# Altium footprint library Resistors.PcbLib: 35 footprints (part 3 of 3)
Each footprint in its own frame and in the unit in brackets; x right, y up, seen from the top. Pads: shape width x height; smd on the part's side, far side on the other; paste and mask are expansions set on the pad; w line width, h text height; cw(c..) or ccw(c..) is an arc to the next point about the centre after c.
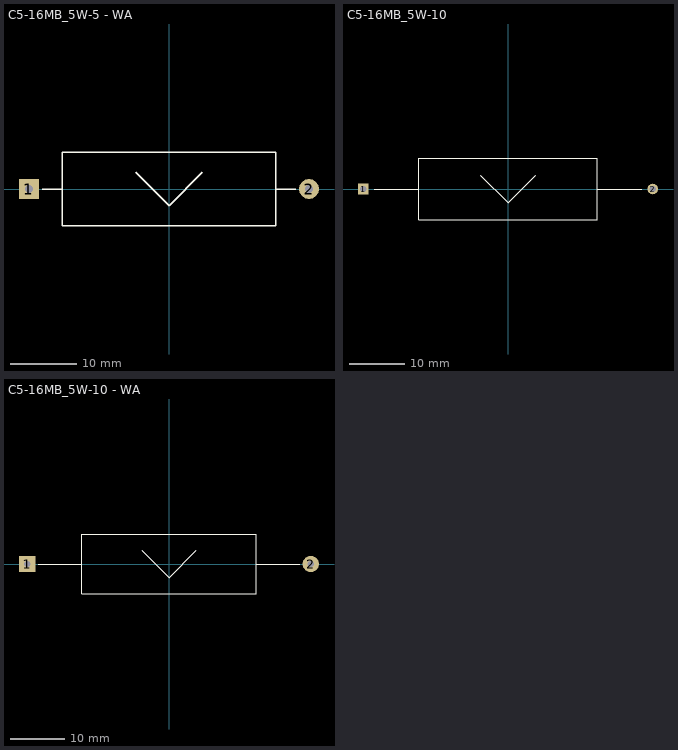
[diagram p2: the footprints below, top view; thin cyan lines are the x and y axes]

## С5-16МВ_5W-5 - WA [mm] "Резистор - 5 Вт  постоянный, проволочный прецизионный. D=11mm,  L=32mm, l=20mm - вывод"
height 11
pads (2):
  rect 3x3 hole 1.15: 1(-21,0)
  round 3 hole 1.15: 2(21,0)
Top Overlay:
  lines w0.2: -19,0 -16,0 ; -5,2.5 0,-2.5 5,2.5 ; 16,0 19,0 ; -16,-5.5 -16,5.5 16,5.5 16,-5.5 -16,-5.5

## С5-16МВ_5W-10 [mm] "Резистор - 5 Вт  постоянный, проволочный прецизионный. D=11mm,  L=32mm, l=20mm - вывод"
height 11
pads (2):
  rect 1.9x1.9 hole 1.15: 1(-26,0)
  round 1.9 hole 1.15: 2(26,0)
Top Overlay:
  lines w0.2: -24,0 -16,0 ; -5,2.5 0,-2.5 5,2.5 ; 16,0 24,0 ; -16,-5.5 -16,5.5 16,5.5 16,-5.5 -16,-5.5

## С5-16МВ_5W-10 - WA [mm] "Резистор - 5 Вт  постоянный, проволочный прецизионный. D=11mm,  L=32mm, l=20mm - вывод"
height 11
pads (2):
  rect 3x3 hole 1.15: 1(-26,0)
  round 3 hole 1.15: 2(26,0)
Top Overlay:
  lines w0.2: -24,0 -16,0 ; -5,2.5 0,-2.5 5,2.5 ; 16,0 24,0 ; -16,-5.5 -16,5.5 16,5.5 16,-5.5 -16,-5.5